# EAGLE library part TEN60-P6-P6-VERT (library Connectors)
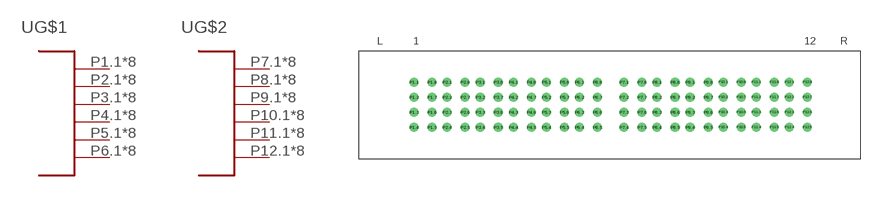
[diagram p3: symbol with the pads of TEN60-P6-P6-VERT; footprint TEN60-P6-P6-VERT]

Designator prefix -; gates G$1=TEN60-6-PWR G$2=TEN60-6-PWR

## TEN60-P6-P6-VERT  [TEN60-P6-P6-VERT]
P1.1  G$1:P$1
P1.2  G$1:P$1
P1.3  G$1:P$1
P1.4  G$1:P$1
P1.5  G$1:P$1
P1.6  G$1:P$1
P1.7  G$1:P$1
P1.8  G$1:P$1
P2.1  G$1:P$2
P2.2  G$1:P$2
P2.3  G$1:P$2
P2.4  G$1:P$2
P2.5  G$1:P$2
P2.6  G$1:P$2
P2.7  G$1:P$2
P2.8  G$1:P$2
P3.1  G$1:P$3
P3.2  G$1:P$3
P3.3  G$1:P$3
P3.4  G$1:P$3
P3.5  G$1:P$3
P3.6  G$1:P$3
P3.7  G$1:P$3
P3.8  G$1:P$3
P4.1  G$1:P$4
P4.2  G$1:P$4
P4.3  G$1:P$4
P4.4  G$1:P$4
P4.5  G$1:P$4
P4.6  G$1:P$4
P4.7  G$1:P$4
P4.8  G$1:P$4
P5.1  G$1:P$5
P5.2  G$1:P$5
P5.3  G$1:P$5
P5.4  G$1:P$5
P5.5  G$1:P$5
P5.6  G$1:P$5
P5.7  G$1:P$5
P5.8  G$1:P$5
P6.1  G$1:P$6
P6.2  G$1:P$6
P6.3  G$1:P$6
P6.4  G$1:P$6
P6.5  G$1:P$6
P6.6  G$1:P$6
P6.7  G$1:P$6
P6.8  G$1:P$6
P7.1  G$2:P$1
P7.2  G$2:P$1
P7.3  G$2:P$1
P7.4  G$2:P$1
P7.5  G$2:P$1
P7.6  G$2:P$1
P7.7  G$2:P$1
P7.8  G$2:P$1
P8.1  G$2:P$2
P8.2  G$2:P$2
P8.3  G$2:P$2
P8.4  G$2:P$2
P8.5  G$2:P$2
P8.6  G$2:P$2
P8.7  G$2:P$2
P8.8  G$2:P$2
P9.1  G$2:P$3
P9.2  G$2:P$3
P9.3  G$2:P$3
P9.4  G$2:P$3
P9.5  G$2:P$3
P9.6  G$2:P$3
P9.7  G$2:P$3
P9.8  G$2:P$3
P10.1  G$2:P$4
P10.2  G$2:P$4
P10.3  G$2:P$4
P10.4  G$2:P$4
P10.5  G$2:P$4
P10.6  G$2:P$4
P10.7  G$2:P$4
P10.8  G$2:P$4
P11.1  G$2:P$5
P11.2  G$2:P$5
P11.3  G$2:P$5
P11.4  G$2:P$5
P11.5  G$2:P$5
P11.6  G$2:P$5
P11.7  G$2:P$5
P11.8  G$2:P$5
P12.1  G$2:P$6
P12.2  G$2:P$6
P12.3  G$2:P$6
P12.4  G$2:P$6
P12.5  G$2:P$6
P12.6  G$2:P$6
P12.7  G$2:P$6
P12.8  G$2:P$6

## Footprint TEN60-P6-P6-VERT (pad centres in mm)
drill 1: P1.1 9.18,12.75; P1.2 9.18,10.25; P1.3 9.18,7.75; P1.4 9.18,5.25; P1.5 12.18,5.25; P1.6 12.18,7.75; P1.7 12.18,10.25; P1.8 12.18,12.75; P2.1 14.68,12.75; P2.2 14.68,10.25; P2.3 14.68,7.75; P2.4 14.68,5.25; P2.5 17.68,5.25; P2.6 17.68,7.75; P2.7 17.68,10.25; P2.8 17.68,12.75; P3.1 20.18,12.75; P3.2 20.18,10.25; P3.3 20.18,7.75; P3.4 20.18,5.25; P3.5 23.18,5.25; P3.6 23.18,7.75; P3.7 23.18,10.25; P3.8 23.18,12.75; P4.1 25.68,12.75; P4.2 25.68,10.25; P4.3 25.68,7.75; P4.4 25.68,5.25; P4.5 28.68,5.25; P4.6 28.68,7.75; P4.7 28.68,10.25; P4.8 28.68,12.75; P5.1 31.18,12.75; P5.2 31.18,10.25; P5.3 31.18,7.75; P5.4 31.18,5.25; P5.5 34.18,5.25; P5.6 34.18,7.75; P5.7 34.18,10.25; P5.8 34.18,12.75; P6.1 36.68,12.75; P6.2 36.68,10.25; P6.3 36.68,7.75; P6.4 36.68,5.25; P6.5 39.68,5.25; P6.6 39.68,7.75; P6.7 39.68,10.25; P6.8 39.68,12.75; P7.1 44.08,12.75; P7.2 44.08,10.25; P7.3 44.08,7.75; P7.4 44.08,5.25; P7.5 47.08,5.25; P7.6 47.08,7.75; P7.7 47.08,10.25; P7.8 47.08,12.75; P8.1 49.58,12.75; P8.2 49.58,10.25; P8.3 49.58,7.75; P8.4 49.58,5.25; P8.5 52.58,5.25; P8.6 52.58,7.75; P8.7 52.58,10.25; P8.8 52.58,12.75; P9.1 55.08,12.75; P9.2 55.08,10.25; P9.3 55.08,7.75; P9.4 55.08,5.25; P9.5 58.08,5.25; P9.6 58.08,7.75; P9.7 58.08,10.25; P9.8 58.08,12.75; P10.1 60.58,12.75; P10.2 60.58,10.25; P10.3 60.58,7.75; P10.4 60.58,5.25; P10.5 63.58,5.25; P10.6 63.58,7.75; P10.7 63.58,10.25; P10.8 63.58,12.75; P11.1 66.08,12.75; P11.2 66.08,10.25; P11.3 66.08,7.75; P11.4 66.08,5.25; P11.5 69.08,5.25; P11.6 69.08,7.75; P11.7 69.08,10.25; P11.8 69.08,12.75; P12.1 71.58,12.75; P12.2 71.58,10.25; P12.3 71.58,7.75; P12.4 71.58,5.25; P12.5 74.58,5.25; P12.6 74.58,7.75; P12.7 74.58,10.25; P12.8 74.58,12.75